# Altium footprint library TSSOP-24_L7.8-W4.4-P0.65-LS6.4-BL.PcbLib: 1 footprints
Each footprint in its own frame and in the unit in brackets; x right, y up, seen from the top. Pads: shape width x height; smd on the part's side, far side on the other; paste and mask are expansions set on the pad; w line width, h text height; cw(c..) or ccw(c..) is an arc to the next point about the centre after c.
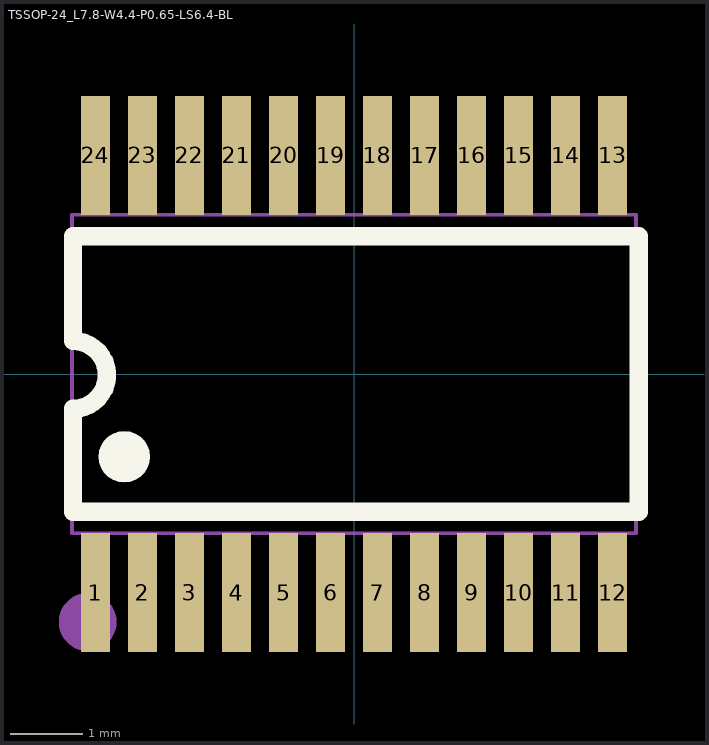
[diagram p0: the footprint, top view; thin cyan lines are the x and y axes]

## TSSOP-24_L7.8-W4.4-P0.65-LS6.4-BL [mm]
pads (24):
  rect 0.4x1.65 smd: 1(-3.575,-3.023) 2(-2.925,-3.023) 3(-2.275,-3.023) 4(-1.625,-3.023) 5(-0.975,-3.023) 6(-0.325,-3.023) 7(0.325,-3.023) 8(0.975,-3.023) 9(1.625,-3.023) 10(2.275,-3.023) 11(2.925,-3.023) 12(3.575,-3.023) 13(3.575,3.023) 14(2.925,3.023) 15(2.275,3.023) 16(1.625,3.023) 17(0.975,3.023) 18(0.325,3.023) 19(-0.325,3.023) 20(-0.975,3.023) 21(-1.625,3.023) 22(-2.275,3.023) 23(-2.925,3.023) 24(-3.575,3.023)
Top Overlay:
  region: -3.529,-1.143 -3.52,-1.064 -3.494,-0.989 -3.452,-0.922 -3.396,-0.866 -3.329,-0.824 -3.254,-0.798 -3.175,-0.789 -3.096,-0.798 -3.021,-0.824 -2.954,-0.866 -2.898,-0.922 -2.856,-0.989 -2.83,-1.064 -2.821,-1.143 -2.83,-1.222 -2.856,-1.297 -2.898,-1.364 -2.954,-1.42 -3.021,-1.462 -3.096,-1.488 -3.175,-1.497 -3.254,-1.488 -3.329,-1.462 -3.396,-1.42 -3.452,-1.364 -3.494,-1.297 -3.52,-1.222
  lines w0.254: -3.886,0.457 cw(c-3.886,-0.013) -3.886,-0.483 -3.886,-1.753 -3.886,-1.905 3.937,-1.905 3.937,1.905 -3.886,1.905 -3.886,1.753 -3.886,0.483
Mechanical 2:
  circle w0.4: c-3.683,-3.429 r0.2
Mechanical 6:
  lines w0.051: -3.9,-2.2 -3.9,2.2 3.9,2.2 3.9,-2.2 -3.9,-2.2
Mechanical 7:
  region: -0.225,2.588 -0.425,2.588 -0.425,2.188 -0.225,2.188
  region: -0.875,2.588 -1.075,2.588 -1.075,2.188 -0.875,2.188
  region: -1.525,2.588 -1.725,2.588 -1.725,2.188 -1.525,2.188
  region: -2.175,2.588 -2.375,2.588 -2.375,2.188 -2.175,2.188
  region: -2.825,2.588 -3.025,2.588 -3.025,2.188 -2.825,2.188
  region: -3.475,2.588 -3.675,2.588 -3.675,2.188 -3.475,2.188
  region: 3.675,2.588 3.475,2.588 3.475,2.188 3.675,2.188
  region: 3.025,2.588 2.825,2.588 2.825,2.188 3.025,2.188
  region: 2.375,2.588 2.175,2.588 2.175,2.188 2.375,2.188
  region: 1.725,2.588 1.525,2.588 1.525,2.188 1.725,2.188
  region: 1.075,2.588 0.875,2.588 0.875,2.188 1.075,2.188
  region: 0.425,2.588 0.225,2.588 0.225,2.188 0.425,2.188
  region: 0.225,-2.588 0.425,-2.588 0.425,-2.188 0.225,-2.188
  region: 0.875,-2.588 1.075,-2.588 1.075,-2.188 0.875,-2.188
  region: 1.525,-2.588 1.725,-2.588 1.725,-2.188 1.525,-2.188
  region: 2.175,-2.588 2.375,-2.588 2.375,-2.188 2.175,-2.188
  region: 2.825,-2.588 3.025,-2.588 3.025,-2.188 2.825,-2.188
  region: 3.475,-2.588 3.675,-2.588 3.675,-2.188 3.475,-2.188
  region: -3.675,-2.588 -3.475,-2.588 -3.475,-2.188 -3.675,-2.188
  region: -3.025,-2.588 -2.825,-2.588 -2.825,-2.188 -3.025,-2.188
  region: -2.375,-2.588 -2.175,-2.588 -2.175,-2.188 -2.375,-2.188
  region: -1.725,-2.588 -1.525,-2.588 -1.525,-2.188 -1.725,-2.188
  region: -1.075,-2.588 -0.875,-2.588 -0.875,-2.188 -1.075,-2.188
  region: -0.425,-2.588 -0.225,-2.588 -0.225,-2.188 -0.425,-2.188
Mechanical 8:
  region: -3.84,-3.186 -3.84,-3.211 -3.875,-3.246 -3.925,-3.246 -3.96,-3.211 -3.96,-3.186 -3.96,-3.161 -3.925,-3.126 -3.875,-3.126 -3.84,-3.161 -3.84,-3.186
Mechanical 9:
  region: -0.225,2.586 -0.425,2.586 -0.425,3.186 -0.225,3.186
  region: -0.875,2.586 -1.075,2.586 -1.075,3.186 -0.875,3.186
  region: -1.525,2.586 -1.725,2.586 -1.725,3.186 -1.525,3.186
  region: -2.175,2.586 -2.375,2.586 -2.375,3.186 -2.175,3.186
  region: -2.825,2.586 -3.025,2.586 -3.025,3.186 -2.825,3.186
  region: -3.475,2.586 -3.675,2.586 -3.675,3.186 -3.475,3.186
  region: 3.675,2.586 3.475,2.586 3.475,3.186 3.675,3.186
  region: 3.025,2.586 2.825,2.586 2.825,3.186 3.025,3.186
  region: 2.375,2.586 2.175,2.586 2.175,3.186 2.375,3.186
  region: 1.725,2.586 1.525,2.586 1.525,3.186 1.725,3.186
  region: 1.075,2.586 0.875,2.586 0.875,3.186 1.075,3.186
  region: 0.425,2.586 0.225,2.586 0.225,3.186 0.425,3.186
  region: 0.225,-2.586 0.425,-2.586 0.425,-3.186 0.225,-3.186
  region: 0.875,-2.586 1.075,-2.586 1.075,-3.186 0.875,-3.186
  region: 1.525,-2.586 1.725,-2.586 1.725,-3.186 1.525,-3.186
  region: 2.175,-2.586 2.375,-2.586 2.375,-3.186 2.175,-3.186
  region: 2.825,-2.586 3.025,-2.586 3.025,-3.186 2.825,-3.186
  region: 3.475,-2.586 3.675,-2.586 3.675,-3.186 3.475,-3.186
  region: -3.675,-2.586 -3.475,-2.586 -3.475,-3.186 -3.675,-3.186
  region: -3.025,-2.586 -2.825,-2.586 -2.825,-3.186 -3.025,-3.186
  region: -2.375,-2.586 -2.175,-2.586 -2.175,-3.186 -2.375,-3.186
  region: -1.725,-2.586 -1.525,-2.586 -1.525,-3.186 -1.725,-3.186
  region: -1.075,-2.586 -0.875,-2.586 -0.875,-3.186 -1.075,-3.186
  region: -0.425,-2.586 -0.225,-2.586 -0.225,-3.186 -0.425,-3.186